# EAGLE library part DIPSW4 (library 4P_DIPSW)
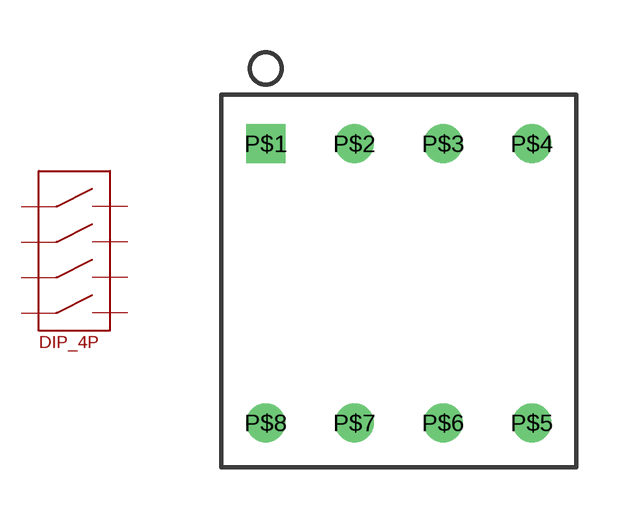
[diagram p0: symbol with the pads of DIPSW4; footprint DIPSW4]

Designator prefix -

## DIPSW4  [DIPSW4]
P$1  P$1
P$2  P$2
P$3  P$3
P$4  P$4
P$5  P$5
P$6  P$6
P$7  P$7
P$8  P$8

## Footprint DIPSW4 (pad centres in mm)
drill 0.6 square: P$1 0,8
drill 0.6: P$2 2.54,8; P$3 5.08,8; P$4 7.62,8; P$5 7.62,0; P$6 5.08,0; P$7 2.54,0; P$8 0,0